# EAGLE library part LD39050 (library controller)
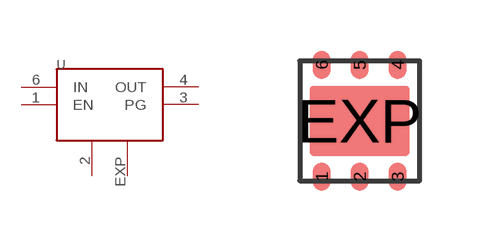
[diagram p3: symbol with the pads of DFN6-3X3; footprint DFN6-3X3]

Designator prefix -

## LD39050  [DFN6-3X3]
1  EN
2  GND
3  PG
4  OUT
6  IN
EXP  PAD

## Footprint DFN6-3X3 (pad centres in mm)
DCB Package 6-Lead Plastic DFN (2mm × 3mm) Source: http://www.linear.com/pc/downloadDocument.do?navId=H0,C1,C1003,C1042,C1032,C1063,P26952,D16357
smd 0.45 x 0.7: 1 -0.95,-1.4; 2 0,-1.4; 3 0.95,-1.4; 4 0.95,1.4; 5 0,1.4; 6 -0.95,1.4
smd 2.5 x 1.75: EXP 0,0